# EAGLE library part HF115F (library LARS_409_RELAY)
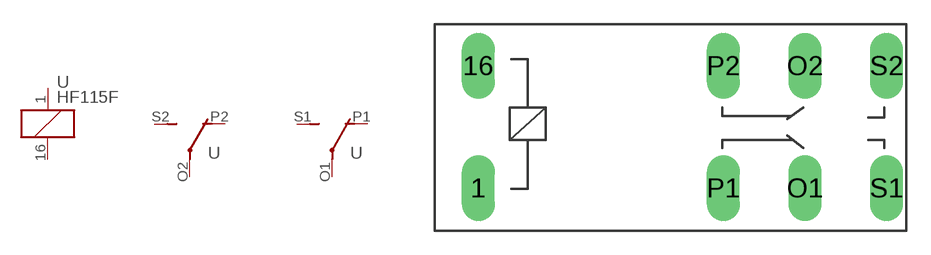
[diagram p0: symbol with the pads of HF115F-5MM; footprint HF115F-5MM]

Designator prefix -; gates G$1=K G$2=KEY-C G$3=KEY-C

## HF115FHF115F  [HF115F-5MM]
1  G$1:1  pas
16  G$1:2  pas
O1  G$3:O  pas
O2  G$2:O  pas
P1  G$3:P  pas
P2  G$2:P  pas
S1  G$3:S  pas
S2  G$2:S  pas

## Footprint HF115F-5MM (pad centres in mm)
drill 1.35 long: 1 -15.12,0; 16 -15.12,7.56; O1 5.04,0; O2 5.04,7.56; P1 0,0; P2 0,7.56; S1 10.08,0; S2 10.08,7.56